# EAGLE library part US-BOARD (library Traficon)
US-board outline Contains: 44p edge connector 3 holes for fixation of the front plate 10 leds
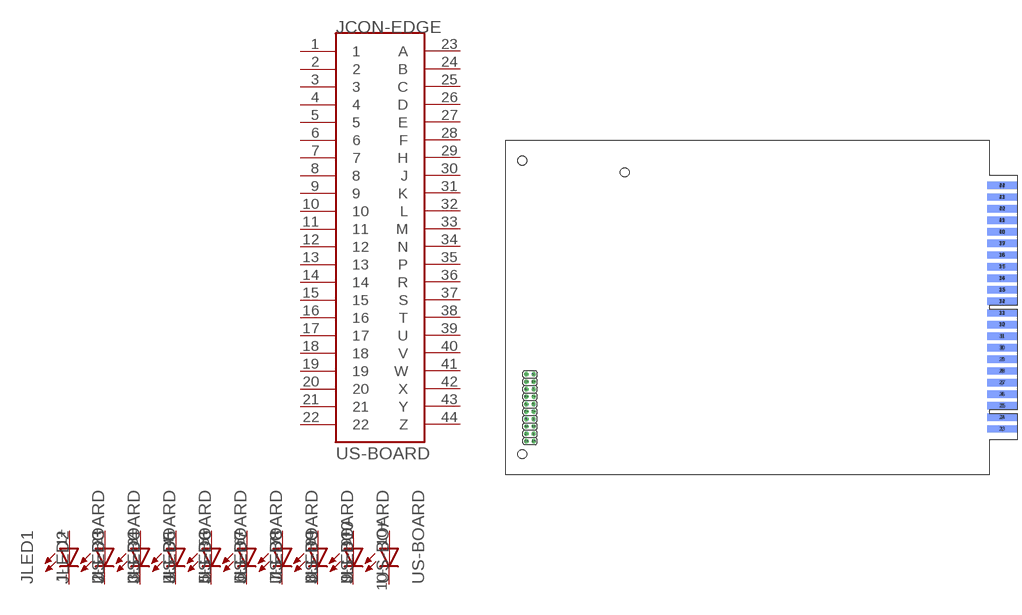
[diagram p50: symbol with the pads of US-BOARD; footprint US-BOARD]

Designator prefix J; gates CON-EDGE=CARD_EDGE_44P LED1=LED LED2=LED LED3=LED LED4=LED LED5=LED LED6=LED LED7=LED LED8=LED LED9=LED LED10=LED

## US-BOARD  [US-BOARD]
1  CON-EDGE:1
1+  LED1:A  pas
1-  LED1:C  pas
2  CON-EDGE:2
2+  LED2:A  pas
2-  LED2:C  pas
3  CON-EDGE:3
3+  LED3:A  pas
3-  LED3:C  pas
4  CON-EDGE:4
4+  LED4:A  pas
4-  LED4:C  pas
5  CON-EDGE:5
5+  LED5:A  pas
5-  LED5:C  pas
6  CON-EDGE:6
6+  LED6:A  pas
6-  LED6:C  pas
7  CON-EDGE:7
7+  LED7:A  pas
7-  LED7:C  pas
8  CON-EDGE:8
8+  LED8:A  pas
8-  LED8:C  pas
9  CON-EDGE:9
9+  LED9:A  pas
9-  LED9:C  pas
10  CON-EDGE:10
10+  LED10:A  pas
10-  LED10:C  pas
11  CON-EDGE:11
12  CON-EDGE:12
13  CON-EDGE:13
14  CON-EDGE:14
15  CON-EDGE:15
16  CON-EDGE:16
17  CON-EDGE:17
18  CON-EDGE:18
19  CON-EDGE:19
20  CON-EDGE:20
21  CON-EDGE:21
22  CON-EDGE:22
23  CON-EDGE:A
24  CON-EDGE:B
25  CON-EDGE:C
26  CON-EDGE:D
27  CON-EDGE:E
28  CON-EDGE:F
29  CON-EDGE:H
30  CON-EDGE:J
31  CON-EDGE:K
32  CON-EDGE:L
33  CON-EDGE:M
34  CON-EDGE:N
35  CON-EDGE:P
36  CON-EDGE:R
37  CON-EDGE:S
38  CON-EDGE:T
39  CON-EDGE:U
40  CON-EDGE:V
41  CON-EDGE:W
42  CON-EDGE:X
43  CON-EDGE:Y
44  CON-EDGE:Z

## Footprint US-BOARD (pad centres in mm)
smd 10.16 x 2.54: 1 169.545,15.622; 2 169.545,19.584; 3 169.545,23.547; 4 169.545,27.509; 5 169.545,31.471; 6 169.545,35.434; 7 169.545,39.396; 8 169.545,43.359; 9 169.545,47.321; 10 169.545,51.283; 11 169.545,55.246; 12 169.545,59.208; 13 169.545,63.171; 14 169.545,67.133; 15 169.545,71.096; 16 169.545,75.058; 17 169.545,79.02; 18 169.545,82.983; 19 169.545,86.945; 20 169.545,90.907; 21 169.545,94.87; 22 169.545,98.832
drill 1.016 octagon: 1+ 9.52,11.4; 1- 9.52,13.94; 2+ 6.98,11.4; 2- 6.98,13.94; 3+ 9.52,16.48; 3- 9.52,19.02; 4+ 6.98,16.48; 4- 6.98,19.02; 5+ 9.52,21.56; 5- 9.52,24.1; 6+ 6.98,21.56; 6- 6.98,24.1; 7+ 9.52,26.64; 7- 9.52,29.18; 8+ 6.98,26.64; 8- 6.98,29.18; 9+ 9.52,31.72; 9- 9.52,34.26; 10+ 6.98,31.72; 10- 6.98,34.26
smd 10.16 x 2.54 bottom: 23 169.545,15.622; 24 169.545,19.584; 25 169.545,23.547; 26 169.545,27.509; 27 169.545,31.471; 28 169.545,35.434; 29 169.545,39.396; 30 169.545,43.359; 31 169.545,47.321; 32 169.545,51.283; 33 169.545,55.246; 34 169.545,59.208; 35 169.545,63.171; 36 169.545,67.133; 37 169.545,71.096; 38 169.545,75.058; 39 169.545,79.02; 40 169.545,82.983; 41 169.545,86.945; 42 169.545,90.907; 43 169.545,94.87; 44 169.545,98.832
hole 3 at 5.57,107.36
hole 3 at 5.57,7.03
hole 3 at 40.64,103.35